# Altium schematic symbol library RTC.SchLib: 1 symbol
Pins are listed as number, name and electrical type; pins without a type are passive.

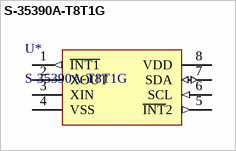
[diagram p0: symbol S-35390A-T8T1G]

## S-35390A-T8T1G
designator U*
IC RTC CLK/CALENDAR SER 8-TSSOP
footprint SOP65P640X120-8N
pins: 1 ~{INT1} (out), 2 XOUT, 3 XIN, 4 VSS (power), 5 ~{INT}2 (out), 6 SCL (in), 7 SDA (io), 8 VDD (power)